# EAGLE library part SC560H (library LoRa Gateway)
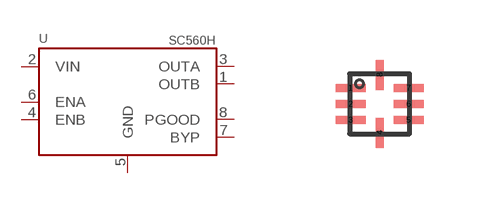
[diagram p0: symbol with the pads of MLPQ-UT8; footprint MLPQ-UT8]

Designator prefix U

## SC560H  [MLPQ-UT8]
1  OUTB
2  VIN
3  OUTA
4  ENB
5  GND
6  ENA
7  BYP
8  PGOOD

## Footprint MLPQ-UT8 (pad centres in mm)
smd 0.75 x 0.2: 1 -0.725,0.4; 2 -0.725,0; 3 -0.725,-0.4; 5 0.725,-0.4; 6 0.725,0; 7 0.725,0.4
smd 0.2 x 0.75: 4 0,-0.725; 8 0,0.725